# Altium schematic symbol library Embedded - Microcontrollers.SchLib: 9 symbols
Pins are listed as number, name and electrical type; pins without a type are passive.

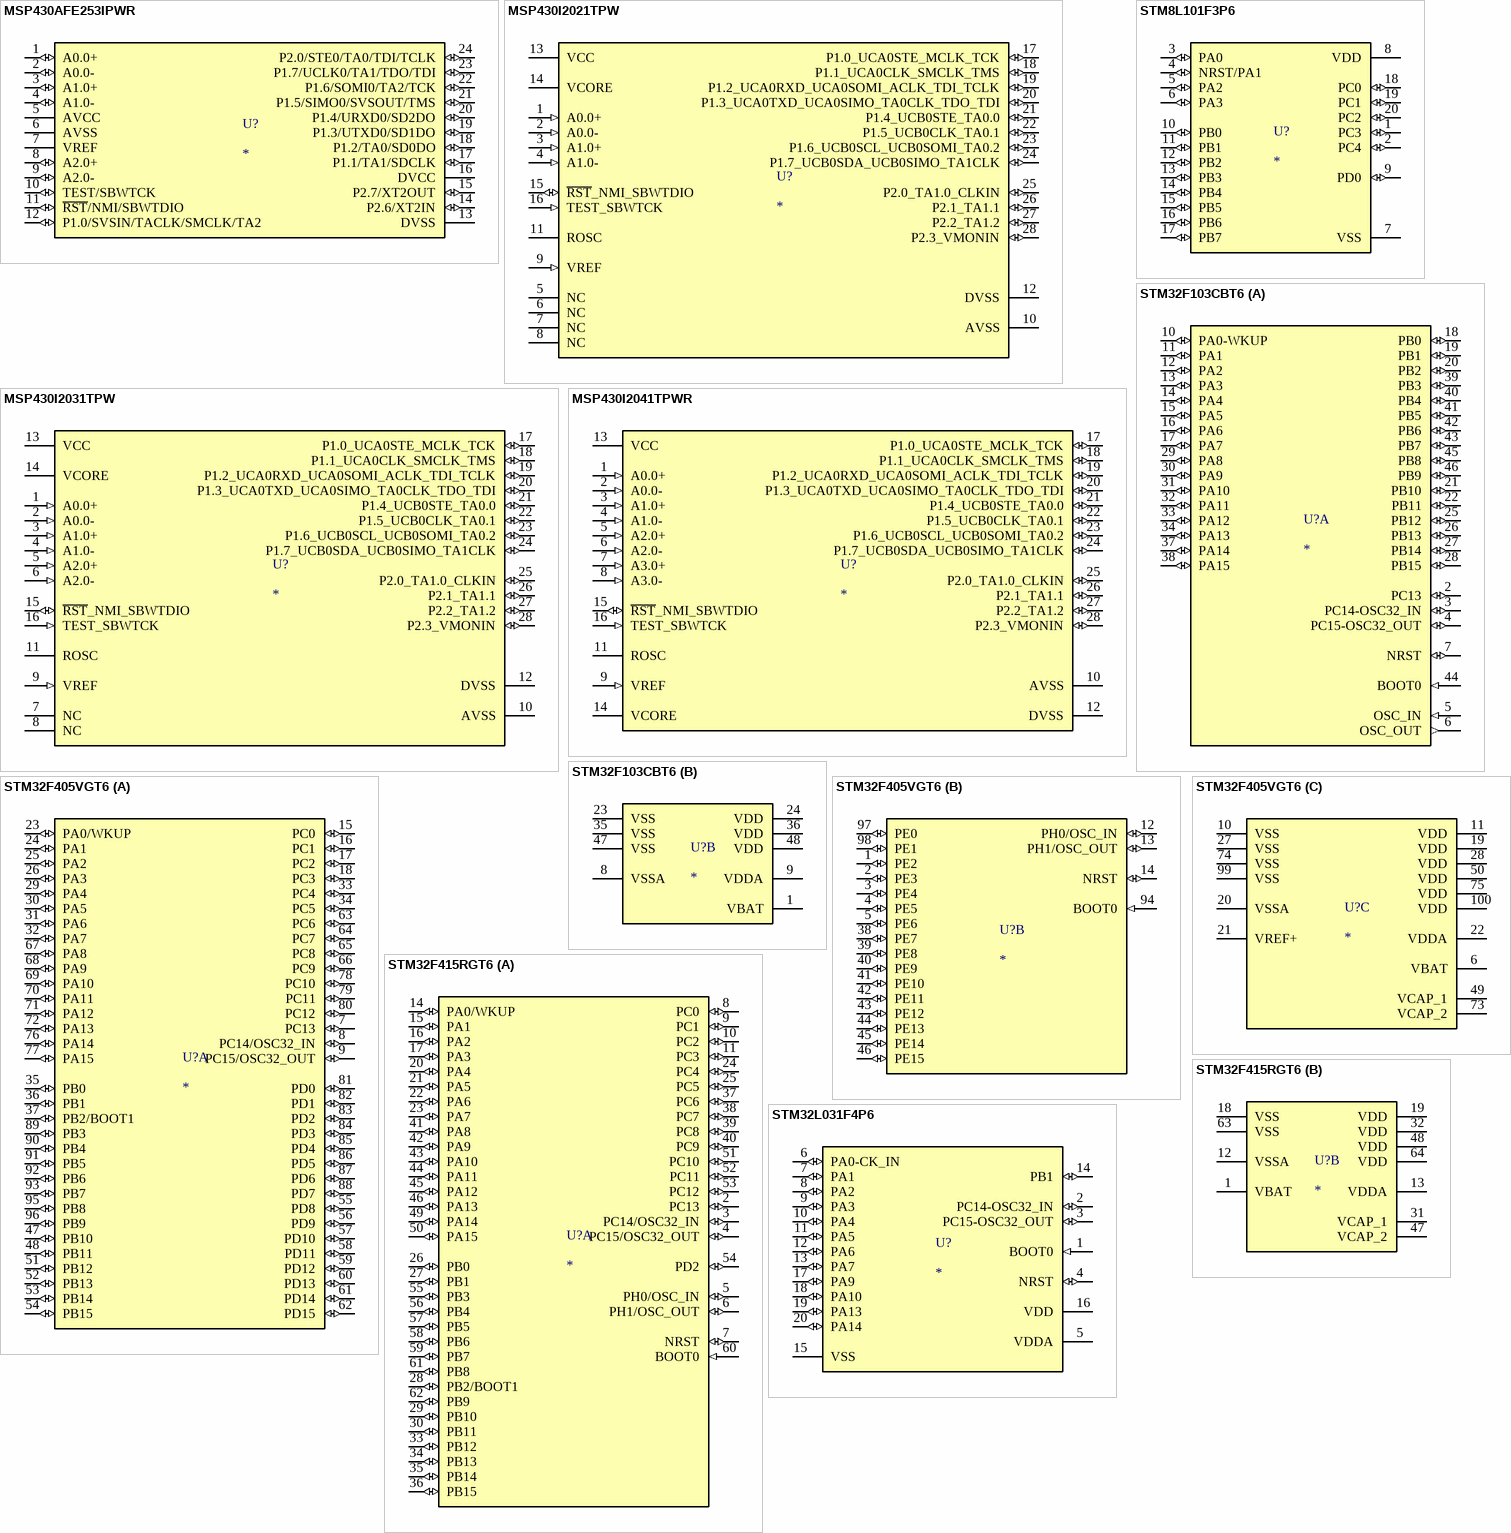
[diagram p0: symbols MSP430AFE253IPWR to STM32L031F4P6]

## MSP430AFE253IPWR
designator U?
IC MCU 16BIT 16KB FLASH 24TSSOP; Supplier 1: Digi-Key; Supplier 2: Mouser; Supplier 3: Arrow Electronics; Supplier Part Number 1: 296-39073-1-ND; Supplier Part Number 2: 595-MSP430AFE253IPWR; Supplier Part Number 3: MSP430AFE253IPWR
footprint TI_24-TSSOP
pins: 1 A0.0+ (io), 2 A0.0- (io), 3 A1.0+ (io), 4 A1.0- (io), 5 AVCC (power), 6 AVSS (power), 7 VREF (power), 8 A2.0+ (io), 9 A2.0- (io), 10 TEST/SBWTCK (io), 11 ~{RST}/NMI/SBWTDIO (io), 12 P1.0/SVSIN/TACLK/SMCLK/TA2 (io), 13 DVSS (power), 14 P2.6/XT2IN (io), 15 P2.7/XT2OUT (io), 16 DVCC (power), 17 P1.1/TA1/SDCLK (io), 18 P1.2/TA0/SD0DO (io), 19 P1.3/UTXD0/SD1DO (io), 20 P1.4/URXD0/SD2DO (io), 21 P1.5/SIMO0/SVSOUT/TMS (io), 22 P1.6/SOMI0/TA2/TCK (io), 23 P1.7/UCLK0/TA1/TDO/TDI (io), 24 P2.0/STE0/TA0/TDI/TCLK (io)

## MSP430I2021TPW
designator U?
IC MCU 16BIT 32KB FLASH 28TSSOP; Supplier 1: Digi-Key; Supplier 2: Mouser; Supplier 3: Arrow Electronics; Supplier Part Number 1: MSP430I2021TPW-ND; Supplier Part Number 2: 595-MSP430I2021TPW; Supplier Part Number 3: MSP430I2021TPW
footprint TI_28-TSSOP
pins: 1 A0.0+ (in), 2 A0.0- (in), 3 A1.0+ (in), 4 A1.0- (in), 5 NC, 6 NC, 7 NC, 8 NC, 9 VREF (in), 10 AVSS (power), 11 ROSC, 12 DVSS (power), 13 VCC (power), 14 VCORE (power), 15 ~{RST}_NMI_SBWTDIO (io), 16 TEST_SBWTCK (in), 17 P1.0_UCA0STE_MCLK_TCK (io), 18 P1.1_UCA0CLK_SMCLK_TMS (io), 19 P1.2_UCA0RXD_UCA0SOMI_ACLK_TDI_TCLK (io), 20 P1.3_UCA0TXD_UCA0SIMO_TA0CLK_TDO_TDI (io), 21 P1.4_UCB0STE_TA0.0 (io), 22 P1.5_UCB0CLK_TA0.1 (io), 23 P1.6_UCB0SCL_UCB0SOMI_TA0.2 (io), 24 P1.7_UCB0SDA_UCB0SIMO_TA1CLK (io), 25 P2.0_TA1.0_CLKIN (io), 26 P2.1_TA1.1 (io), 27 P2.2_TA1.2 (io), 28 P2.3_VMONIN (io)

## MSP430I2031TPW
designator U?
IC MCU 16BIT 32KB FLASH 28TSSOP; Supplier 1: Digi-Key; Supplier 2: Mouser; Supplier Part Number 1: MSP430I2031TPW-ND; Supplier Part Number 2: 595-MSP430I2031TPW
footprint TI_28-TSSOP
pins: 1 A0.0+ (in), 2 A0.0- (in), 3 A1.0+ (in), 4 A1.0- (in), 5 A2.0+ (in), 6 A2.0- (in), 7 NC, 8 NC, 9 VREF (in), 10 AVSS (power), 11 ROSC, 12 DVSS (power), 13 VCC (power), 14 VCORE (power), 15 ~{RST}_NMI_SBWTDIO (io), 16 TEST_SBWTCK (in), 17 P1.0_UCA0STE_MCLK_TCK (io), 18 P1.1_UCA0CLK_SMCLK_TMS (io), 19 P1.2_UCA0RXD_UCA0SOMI_ACLK_TDI_TCLK (io), 20 P1.3_UCA0TXD_UCA0SIMO_TA0CLK_TDO_TDI (io), 21 P1.4_UCB0STE_TA0.0 (io), 22 P1.5_UCB0CLK_TA0.1 (io), 23 P1.6_UCB0SCL_UCB0SOMI_TA0.2 (io), 24 P1.7_UCB0SDA_UCB0SIMO_TA1CLK (io), 25 P2.0_TA1.0_CLKIN (io), 26 P2.1_TA1.1 (io), 27 P2.2_TA1.2 (io), 28 P2.3_VMONIN (io)

## MSP430I2041TPWR
designator U?
IC MCU 16BIT 32KB FLASH 28TSSOP; Supplier 1: Digi-Key; Supplier 2: Mouser; Supplier 3: Arrow Electronics; Supplier Part Number 1: 296-40426-6-ND; Supplier Part Number 2: 595-MSP430I2041TPWR; Supplier Part Number 3: MSP430I2041TPWR
footprint TI_28-TSSOP
pins: 1 A0.0+ (in), 2 A0.0- (in), 3 A1.0+ (in), 4 A1.0- (in), 5 A2.0+ (in), 6 A2.0- (in), 7 A3.0+ (in), 8 A3.0- (in), 9 VREF (in), 10 AVSS (power), 11 ROSC, 12 DVSS (power), 13 VCC (power), 14 VCORE, 15 ~{RST}_NMI_SBWTDIO (io), 16 TEST_SBWTCK (in), 17 P1.0_UCA0STE_MCLK_TCK (io), 18 P1.1_UCA0CLK_SMCLK_TMS (io), 19 P1.2_UCA0RXD_UCA0SOMI_ACLK_TDI_TCLK (io), 20 P1.3_UCA0TXD_UCA0SIMO_TA0CLK_TDO_TDI (io), 21 P1.4_UCB0STE_TA0.0 (io), 22 P1.5_UCB0CLK_TA0.1 (io), 23 P1.6_UCB0SCL_UCB0SOMI_TA0.2 (io), 24 P1.7_UCB0SDA_UCB0SIMO_TA1CLK (io), 25 P2.0_TA1.0_CLKIN (io), 26 P2.1_TA1.1 (io), 27 P2.2_TA1.2 (io), 28 P2.3_VMONIN (io)

## STM8L101F3P6
designator U?
IC MCU 8BIT 8KB FLASH 20TSSOP; Supplier 1: Digi-Key; Supplier 2: Farnell; Supplier 3: Mouser; Supplier Part Number 1: 497-11556-ND; Supplier Part Number 2: 1776994; Supplier Part Number 3: 511-STM8L101F3P6
footprint STM_TSSOP20
pins: 1 PC3 (io), 2 PC4 (io), 3 PA0 (io), 4 NRST/PA1 (io), 5 PA2 (io), 6 PA3 (io), 7 VSS (power), 8 VDD (power), 9 PD0 (io), 10 PB0 (io), 11 PB1 (io), 12 PB2 (io), 13 PB3 (io), 14 PB4 (io), 15 PB5 (io), 16 PB6 (io), 17 PB7 (io), 18 PC0 (io), 19 PC1 (io), 20 PC2 (io)

## STM32F103CBT6
designator U?
IC MCU 32BIT 128KB FLASH 48LQFP; Supplier 1: Digi-Key; Supplier 2: Farnell; Supplier 3: Mouser; Supplier Part Number 1: 497-6288-ND; Supplier Part Number 2: 1606327; Supplier Part Number 3: 511-STM32F103CBT6
footprint STM_LQFP48-7x7mm
part A pins: 2 PC13 (io), 3 PC14-OSC32_IN (io), 4 PC15-OSC32_OUT (io), 5 OSC_IN (in), 6 OSC_OUT (out), 7 NRST (io), 10 PA0-WKUP (io), 11 PA1 (io), 12 PA2 (io), 13 PA3 (io), 14 PA4 (io), 15 PA5 (io), 16 PA6 (io), 17 PA7 (io), 18 PB0 (io), 19 PB1 (io), 20 PB2 (io), 21 PB10 (io), 22 PB11 (io), 25 PB12 (io), 26 PB13 (io), 27 PB14 (io), 28 PB15 (io), 29 PA8 (io), 30 PA9 (io), 31 PA10 (io), 32 PA11 (io), 33 PA12 (io), 34 PA13 (io), 37 PA14 (io), 38 PA15 (io), 39 PB3 (io), 40 PB4 (io), 41 PB5 (io), 42 PB6 (io), 43 PB7 (io), 44 BOOT0 (in), 45 PB8 (io), 46 PB9 (io)
part B pins: 1 VBAT (power), 8 VSSA (power), 9 VDDA (power), 23 VSS (power), 24 VDD (power), 35 VSS (power), 36 VDD (power), 47 VSS (power), 48 VDD (power)

## STM32F405VGT6
designator U?
IC MCU 32BIT 1MB FLASH 100LQFP; Supplier 1: Digi-Key; Supplier 2: Farnell; Supplier 3: Mouser; Supplier 4: Arrow Electronics; Supplier Part Number 1: 497-11910-ND; Supplier Part Number 2: 2215224; Supplier Part Number 3: 511-STM32F405VGT6; Supplier Part Number 4: STM32F405VGT6
footprint STM_LQFP100-14x14mm
part A pins: 7 PC13 (io), 8 PC14/OSC32_IN (io), 9 PC15/OSC32_OUT (io), 15 PC0 (io), 16 PC1 (io), 17 PC2 (io), 18 PC3 (io), 23 PA0/WKUP (io), 24 PA1 (io), 25 PA2 (io), 26 PA3 (io), 29 PA4 (io), 30 PA5 (io), 31 PA6 (io), 32 PA7 (io), 33 PC4 (io), 34 PC5 (io), 35 PB0 (io), 36 PB1 (io), 37 PB2/BOOT1 (io), 47 PB10 (io), 48 PB11 (io), 51 PB12 (io), 52 PB13 (io), 53 PB14 (io), 54 PB15 (io), 55 PD8 (io), 56 PD9 (io), 57 PD10 (io), 58 PD11 (io), 59 PD12 (io), 60 PD13 (io), 61 PD14 (io), 62 PD15 (io), 63 PC6 (io), 64 PC7 (io), 65 PC8 (io), 66 PC9 (io), 67 PA8 (io), 68 PA9 (io), 69 PA10 (io), 70 PA11 (io), 71 PA12 (io), 72 PA13 (io), 76 PA14 (io), 77 PA15 (io), 78 PC10 (io), 79 PC11 (io), 80 PC12 (io), 81 PD0 (io), 82 PD1 (io), 83 PD2 (io), 84 PD3 (io), 85 PD4 (io), 86 PD5 (io), 87 PD6 (io), 88 PD7 (io), 89 PB3 (io), 90 PB4 (io), 91 PB5 (io), 92 PB6 (io), 93 PB7 (io), 95 PB8 (io), 96 PB9 (io)
part B pins: 1 PE2 (io), 2 PE3 (io), 3 PE4 (io), 4 PE5 (io), 5 PE6 (io), 12 PH0/OSC_IN (io), 13 PH1/OSC_OUT (io), 14 NRST (io), 38 PE7 (io), 39 PE8 (io), 40 PE9 (io), 41 PE10 (io), 42 PE11 (io), 43 PE12 (io), 44 PE13 (io), 45 PE14 (io), 46 PE15 (io), 94 BOOT0 (in), 97 PE0 (io), 98 PE1 (io)
part C pins: 6 VBAT (power), 10 VSS (power), 11 VDD (power), 19 VDD (power), 20 VSSA (power), 21 VREF+ (power), 22 VDDA (power), 27 VSS (power), 28 VDD (power), 49 VCAP_1 (power), 50 VDD (power), 73 VCAP_2 (power), 74 VSS (power), 75 VDD (power), 99 VSS (power), 100 VDD (power)

## STM32F415RGT6
designator U?
IC MCU 32BIT 1MB FLASH 64LQFP; Supplier 1: Digi-Key; Supplier 2: Farnell; Supplier 3: Mouser; Supplier Part Number 1: 497-11907-ND; Supplier Part Number 2: 2064370; Supplier Part Number 3: 511-STM32F415RGT6
footprint STM_LQFP64-10x10mm
part A pins: 2 PC13 (io), 3 PC14/OSC32_IN (io), 4 PC15/OSC32_OUT (io), 5 PH0/OSC_IN (io), 6 PH1/OSC_OUT (io), 7 NRST (io), 8 PC0 (io), 9 PC1 (io), 10 PC2 (io), 11 PC3 (io), 14 PA0/WKUP (io), 15 PA1 (io), 16 PA2 (io), 17 PA3 (io), 20 PA4 (io), 21 PA5 (io), 22 PA6 (io), 23 PA7 (io), 24 PC4 (io), 25 PC5 (io), 26 PB0 (io), 27 PB1 (io), 28 PB2/BOOT1 (io), 29 PB10 (io), 30 PB11 (io), 33 PB12 (io), 34 PB13 (io), 35 PB14 (io), 36 PB15 (io), 37 PC6 (io), 38 PC7 (io), 39 PC8 (io), 40 PC9 (io), 41 PA8 (io), 42 PA9 (io), 43 PA10 (io), 44 PA11 (io), 45 PA12 (io), 46 PA13 (io), 49 PA14 (io), 50 PA15 (io), 51 PC10 (io), 52 PC11 (io), 53 PC12 (io), 54 PD2 (io), 55 PB3 (io), 56 PB4 (io), 57 PB5 (io), 58 PB6 (io), 59 PB7 (io), 60 BOOT0 (in), 61 PB8 (io), 62 PB9 (io)
part B pins: 1 VBAT (power), 12 VSSA (power), 13 VDDA (power), 18 VSS (power), 19 VDD (power), 31 VCAP_1 (power), 32 VDD (power), 47 VCAP_2 (power), 48 VDD (power), 63 VSS (power), 64 VDD (power)

## STM32L031F4P6
designator U?
IC MCU 32BIT 16KB FLASH 20TSSOP; Supplier 1: Digi-Key; Supplier 2: Farnell; Supplier 3: Mouser; Supplier 4: Arrow Electronics; Supplier Part Number 1: 497-17483-ND; Supplier Part Number 2: 2770299; Supplier Part Number 3: 511-STM32L031F4P6; Supplier Part Number 4: STM32L031F4P6
footprint STM_TSSOP20
pins: 1 BOOT0 (in), 2 PC14-OSC32_IN (io), 3 PC15-OSC32_OUT (io), 4 NRST (io), 5 VDDA (power), 6 PA0-CK_IN (io), 7 PA1 (io), 8 PA2 (io), 9 PA3 (io), 10 PA4 (io), 11 PA5 (io), 12 PA6 (io), 13 PA7 (io), 14 PB1 (io), 15 VSS (power), 16 VDD (power), 17 PA9 (io), 18 PA10 (io), 19 PA13 (io), 20 PA14 (io)